# Altium footprint library connector.PcbLib: 180 footprints (part 10 of 12)
Each footprint in its own frame and in the unit in brackets; x right, y up, seen from the top. Pads: shape width x height; smd on the part's side, far side on the other; paste and mask are expansions set on the pad; w line width, h text height; cw(c..) or ccw(c..) is an arc to the next point about the centre after c.
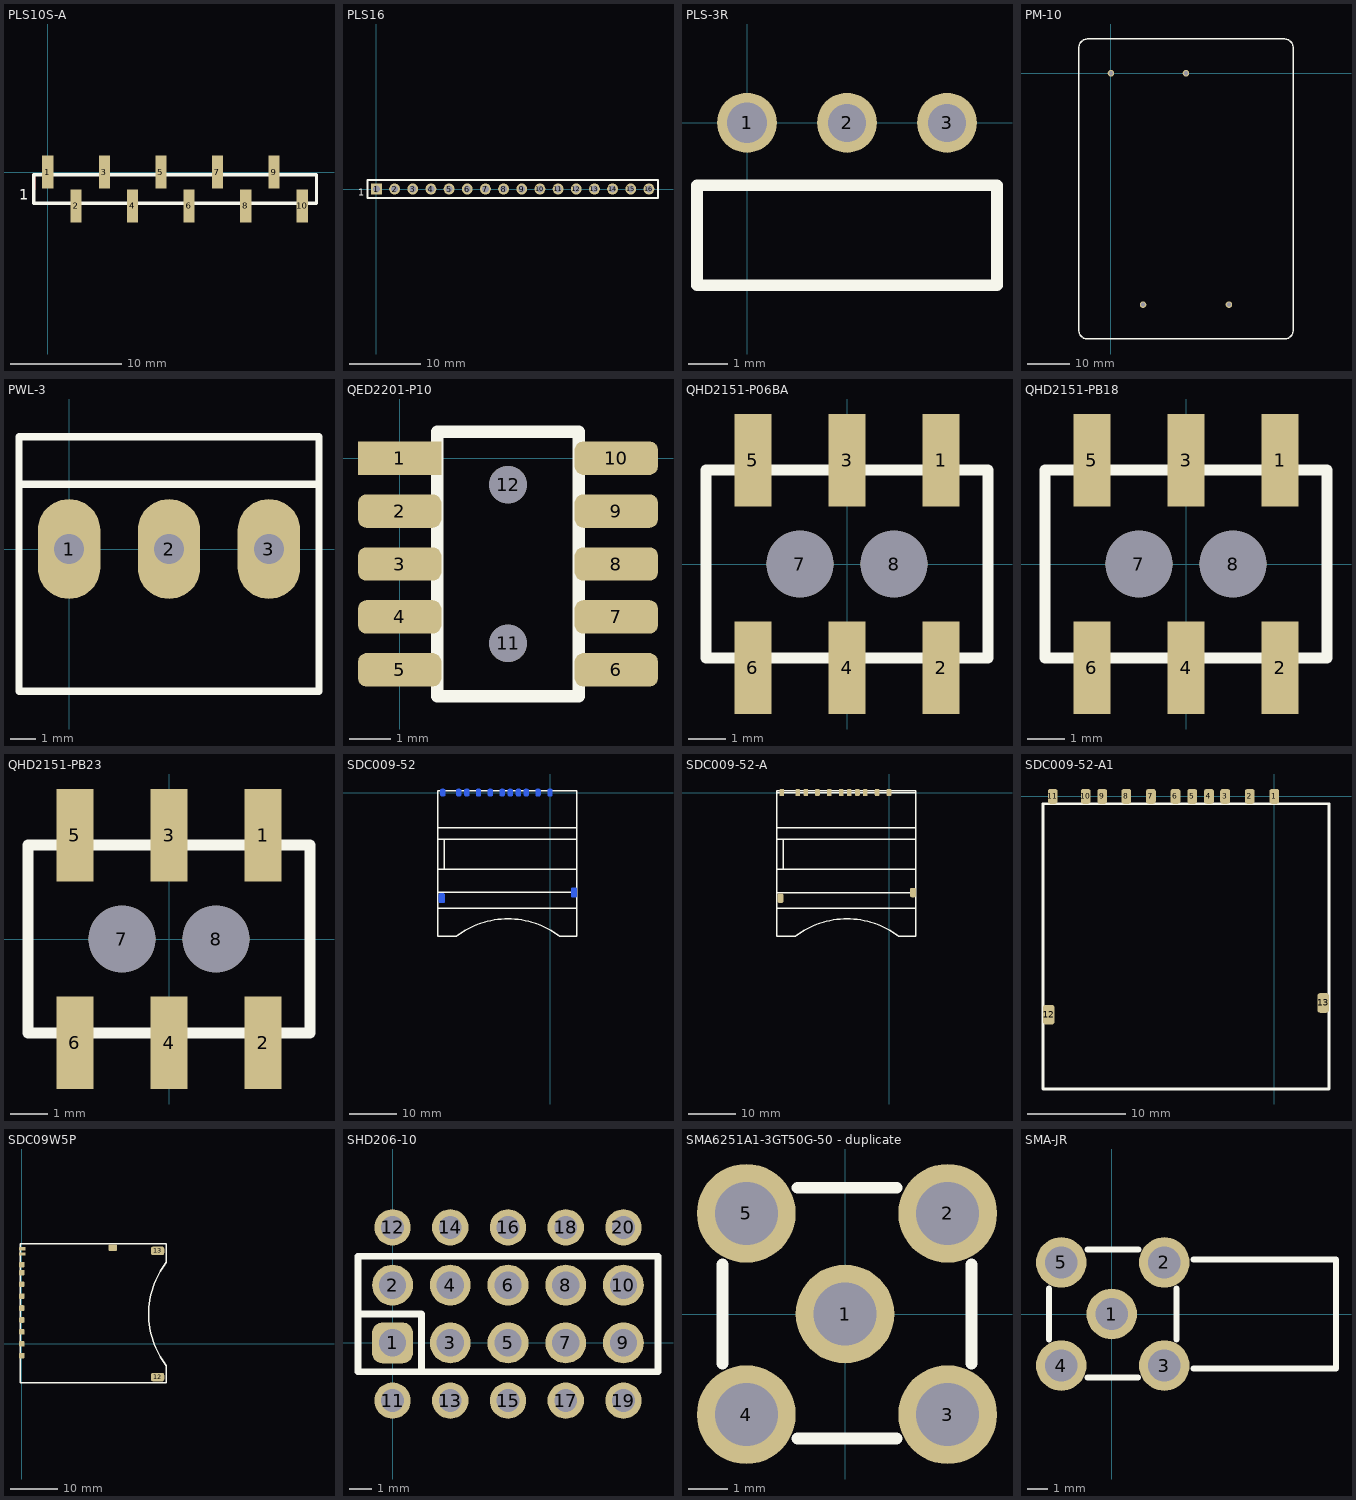
[diagram p9: the footprints below, top view; thin cyan lines are the x and y axes]

## PLS10S-A [mm]
pads (10):
  rect 1x3 smd: 1(0,0) 2(2.54,-3.048) 3(5.08,0) 4(7.62,-3.048) 5(10.16,0) 6(12.7,-3.048) 7(15.24,0) 8(17.78,-3.048) 9(20.32,0) 10(22.86,-3.048)
Top Layer:
  lines w0.3: -1.27,-1.524 -1.27,-0.254
Top Overlay:
  lines w0.3: -1.27,-2.794 24.13,-2.794 24.13,-0.254 -1.27,-0.254 -1.27,-2.794
  text "1" at -2.582,-2.487 h0.95

## PLS16 [mil]
pads (16):
  rect 60x60 hole 38: 1(0,0)
  round 60 hole 38: 2(100,0) 3(200,0) 4(300,0) 5(400,0) 6(500,0) 7(600,0) 8(700,0) 9(800,0) 10(900,0) 11(1000,0) 12(1100,0) 13(1200,0) 14(1300,0) 15(1400,0) 16(1500,0)
Top Overlay:
  lines w11.81: -50,-50 -50,50 1550,50 1550,-50 -50,-50
  text "1" at -101.67,-37.93 h37.5

## PLS-3R [mil]
pads (3):
  round 60 hole 40.16: 1(0,0)
  round 60 hole 38: 2(100,0) 3(200,0)
Top Overlay:
  lines w11.81: -50,-162.5 250,-162.5 250,-62.5 -50,-62.5 -50,-162.5

## PM-10 [mil]
pads (4):
  round 60 hole 38: 1(0.39,0) 2(689.37,0) 3(295.67,-2125.98) 4(1084.25,-2125.59)
Top Overlay:
  lines w11.81: -294.16,235.83 -294.16,-2362.6 ccw(c-215.42,-2362.6) -215.55,-2441.34 ; -294.16,235.96 cw(c-215.42,235.83) -215.42,314.57 1595.61,314.57 cw(c1595.61,235.83) 1674.35,235.83 1674.35,-2362.6 cw(c1595.61,-2362.6) 1595.47,-2441.34 ; -215.42,-2441.34 1595.61,-2441.34

## PWL-3 [mm]
pads (3):
  oval 2.5x4 hole 1.2: 1(0,0) 2(4,0) 3(8,0)
Top Overlay:
  lines w0.3: -2,2.6 10,2.6 ; -2,-5.7 10,-5.7 10,4.5 -2,4.5 -2,-5.7

## QED2201-P10 [mm]
pads (12):
  rect 2x0.8 smd: 1(0,0)
  rrect50% 2x0.8 smd: 2(0,-1.27) 3(0,-2.54) 4(0,-3.81) 5(0,-5.08) 6(5.2,-5.08) 7(5.2,-3.81) 8(5.2,-2.54) 9(5.2,-1.27) 10(5.2,0)
  round 0.9 hole 0.9 unplated: 11(2.6,-4.445) 12(2.6,-0.635)
Top Overlay:
  lines w0.3: 0.9,-5.715 4.3,-5.715 4.3,0.635 0.9,0.635 0.9,-5.715

## QHD2151-P06BA [mm]
pads (8):
  rect 1x2.5 smd: 1(2.54,2.8) 2(2.54,-2.8) 3(0,2.8) 4(0,-2.8) 5(-2.54,2.8) 6(-2.54,-2.8)
  round 1.8 hole 1.8: 7(-1.27,0) 8(1.27,0)
Top Overlay:
  lines w0.3: 1.27,2.54 3.81,2.54 ; 3.81,0 3.81,2.54 ; 3.81,2.54 3.81,-2.54 -3.81,-2.54 -3.81,2.54 3.81,2.54
3D body "QHD2151-P06(h=14,5mm).STEP": height 14.52, standoff -1.28, extent -3.82,-3.13 3.8,3.13

## QHD2151-PB18 [mm]
pads (8):
  rect 1x2.5 smd: 1(2.54,2.8) 2(2.54,-2.8) 3(0,2.8) 4(0,-2.8) 5(-2.54,2.8) 6(-2.54,-2.8)
  round 1.8 hole 1.8: 7(-1.27,0) 8(1.27,0)
Top Overlay:
  lines w0.3: 1.27,2.54 3.81,2.54 ; 3.81,0 3.81,2.54 ; 3.81,2.54 3.81,-2.54 -3.81,-2.54 -3.81,2.54 3.81,2.54
3D body "QHD2151-P06(h=7mm).STEP": height 7.02, standoff -1.28, extent -3.82,-3.13 3.8,3.13

## QHD2151-PB23 [mm]
pads (8):
  rect 1x2.5 smd: 1(2.54,2.8) 2(2.54,-2.8) 3(0,2.8) 4(0,-2.8) 5(-2.54,2.8) 6(-2.54,-2.8)
  round 1.8 hole 1.8: 7(-1.27,0) 8(1.27,0)
Top Overlay:
  lines w0.3: 1.27,2.54 3.81,2.54 ; 3.81,0 3.81,2.54 ; 3.81,2.54 3.81,-2.54 -3.81,-2.54 -3.81,2.54 3.81,2.54
3D body "QHD2151-P06_h=8mm__step.stp": height 8.4, standoff -1.28, extent -3.82,-3.105 3.8,3.155

## SDC009-52 [mm]
pads (13):
  rrect50% 1x1.5 smd far side: 1(0,0) 2(-2.5,0) 3(-5,0) 4(-6.65,0) 5(-8.35,0) 6(-10.05,0) 7(-12.55,0) 8(-15.05,0) 9(-17.48,0) 10(-19.18,0) 11(-22.53,0)
  rrect50% 1.2x2 smd far side: 12(-22.75,-22.2) 13(5.062,-21)
Top Overlay:
  lines w0.3: -23.617,-9.851 -23.617,-16.096 -22.903,-16.096 ; -23.6,-24.3 5.65,-24.3 ; -23.6,-21 5.65,-21 ; -23.6,-16.1 5.65,-16.1 ; -23.6,-9.835 -23.6,-9.819 -22.903,-9.819 ; -23.6,-9.829 5.65,-9.829 ; -23.6,-7.435 5.65,-7.435 ; -22.254,-16.096 -22.254,-9.819 ; -19.67,-30.2 -23.6,-30.2 -23.6,0.4 5.65,0.4 5.65,-30.2 2.005,-30.2 ; -19.665,-30.192 cw(c-8.83,-44.415) 2.005,-30.192

## SDC009-52-A [mm]
pads (13):
  rrect50% 1x1.5 smd: 1(-0.001,-0.001) 2(-2.501,-0.001) 3(-5.001,-0.001) 4(-6.651,-0.001) 5(-8.351,0.004) 6(-10.051,-0.001) 7(-12.551,-0.001) 8(-15.051,-0.001) 9(-17.481,-0.001) 10(-19.181,-0.001) 11(-22.531,-0.001)
  rrect50% 1.2x2 smd: 12(-22.808,-22.201) 13(5.044,-21.002)
Top Overlay:
  lines w0.3: -23.618,-9.852 -23.618,-16.097 -22.904,-16.097 ; -23.601,-24.301 5.649,-24.301 ; -23.601,-21.001 5.649,-21.001 ; -23.601,-16.101 5.649,-16.101 ; -23.601,-9.836 -23.601,-9.82 -22.904,-9.82 ; -23.601,-9.83 5.649,-9.83 ; -23.601,-7.436 5.649,-7.436 ; -23.601,-0.001 5.649,-0.001 ; -22.255,-16.097 -22.255,-9.82 ; -19.671,-30.201 -23.601,-30.201 -23.601,0.399 5.649,0.399 5.649,-30.201 2.004,-30.201 ; -19.666,-30.193 cw(c-8.831,-44.416) 2.004,-30.193

## SDC009-52-A1 [mm]
pads (13):
  rrect50% 1x1.5 smd: 1(0,0) 2(-2.5,0) 3(-5,0) 4(-6.65,0) 5(-8.35,0) 6(-10.05,0) 7(-12.55,0) 8(-15.05,0) 9(-17.5,0) 10(-19.18,0) 11(-22.53,0)
  rrect50% 1.2x2 smd: 12(-22.93,-22.2) 13(4.97,-21)
Top Overlay:
  lines w0.3: -23.5,-29.75 5.54,-29.75 5.54,-0.75 -23.5,-0.75 -23.5,-29.75

## SDC09W5P [mm]
pads (14):
  rrect50% 1.2x1.2 smd: 1(0,0) 2(0,2.5) 3(0,5) 4(0,7.5) 5(0,10) 6(0,12.5) 7(0,14.925) 8(0,16.625) 9(0,-2.5)
  rrect50% 1.4x0.7 smd: 10(0.1,18.855) 11(0.1,19.955)
  rrect50% 2.8x1.8 smd: 12(28.5,-6.995) 13(28.5,19.505)
  rrect50% 1.8x1.45 smd: 14(19.1,20.175)
Top Overlay:
  lines w0.3: 30.292,-4.58 cw(c44.515,6.255) 30.292,17.09 ; 30.3,-4.58 30.3,-8.225 -0.3,-8.225 -0.3,21.025 30.3,21.025 30.3,17.095

## SHD206-10 [mm]
pads (20):
  rrect50% 1.8x1.8 hole 1.2: 1(0,0)
  round 1.8 hole 1.2: 2(0,2.54) 3(2.54,0) 4(2.54,2.54) 5(5.08,0) 6(5.08,2.54) 7(7.62,0) 8(7.62,2.54) 9(10.16,0) 10(10.16,2.54)
  round 1.6 hole 1: 11(0,-2.54) 12(0,5.08) 13(2.54,-2.54) 14(2.54,5.08) 15(5.08,-2.54) 16(5.08,5.08) 17(7.62,-2.54) 18(7.62,5.08) 19(10.16,-2.54) 20(10.16,5.08)
Top Overlay:
  lines w0.3: -1.52,1.27 1.27,1.27 1.27,-1.27 ; -1.52,-1.27 11.68,-1.27 11.68,3.81 -1.52,3.81 -1.52,-1.27

## SMA6251A1-3GT50G-50 - duplicate [mm]
pads (5):
  round 2.5 hole 1.6: 1(0,0) 2(2.6,2.55) 3(2.6,-2.55) 4(-2.5,-2.55) 5(-2.5,2.55)
Top Overlay:
  lines w0.3: -3.1,-1.25 -3.1,1.25 ; -1.2,-3.15 1.3,-3.15 ; -1.2,3.2 1.31,3.2 ; 3.2,-1.25 3.2,1.25
3D body "User Library-LNB.step": height 9.7, standoff -4, extent -3.25,-3.25 3.25,3.25

## SMA-JR [mm]
pads (5):
  round 2.5 hole 1.6: 1(0,0) 2(2.6,2.55) 3(2.6,-2.55) 4(-2.5,-2.55) 5(-2.5,2.55)
Top Overlay:
  lines w0.3: -3.1,-1.25 -3.1,1.25 ; -1.2,-3.15 1.3,-3.15 ; -1.2,3.2 1.31,3.2 ; 3.2,-1.25 3.2,1.25 ; 4.05,-2.7 11.1,-2.7 11.1,2.7 4.05,2.7
3D body "Samtec-SMA-J-P-H-RA-TH1.SLDPRT": height 10.16, standoff -3.94, extent -3.5,-3.5 11.6,3.5